# Altium footprint library O_JonF_DaveL.PcbLib: 331 footprints (part 20 of 21)
Each footprint in its own frame and in the unit in brackets; x right, y up, seen from the top. Pads: shape width x height; smd on the part's side, far side on the other; paste and mask are expansions set on the pad; w line width, h text height; cw(c..) or ccw(c..) is an arc to the next point about the centre after c.
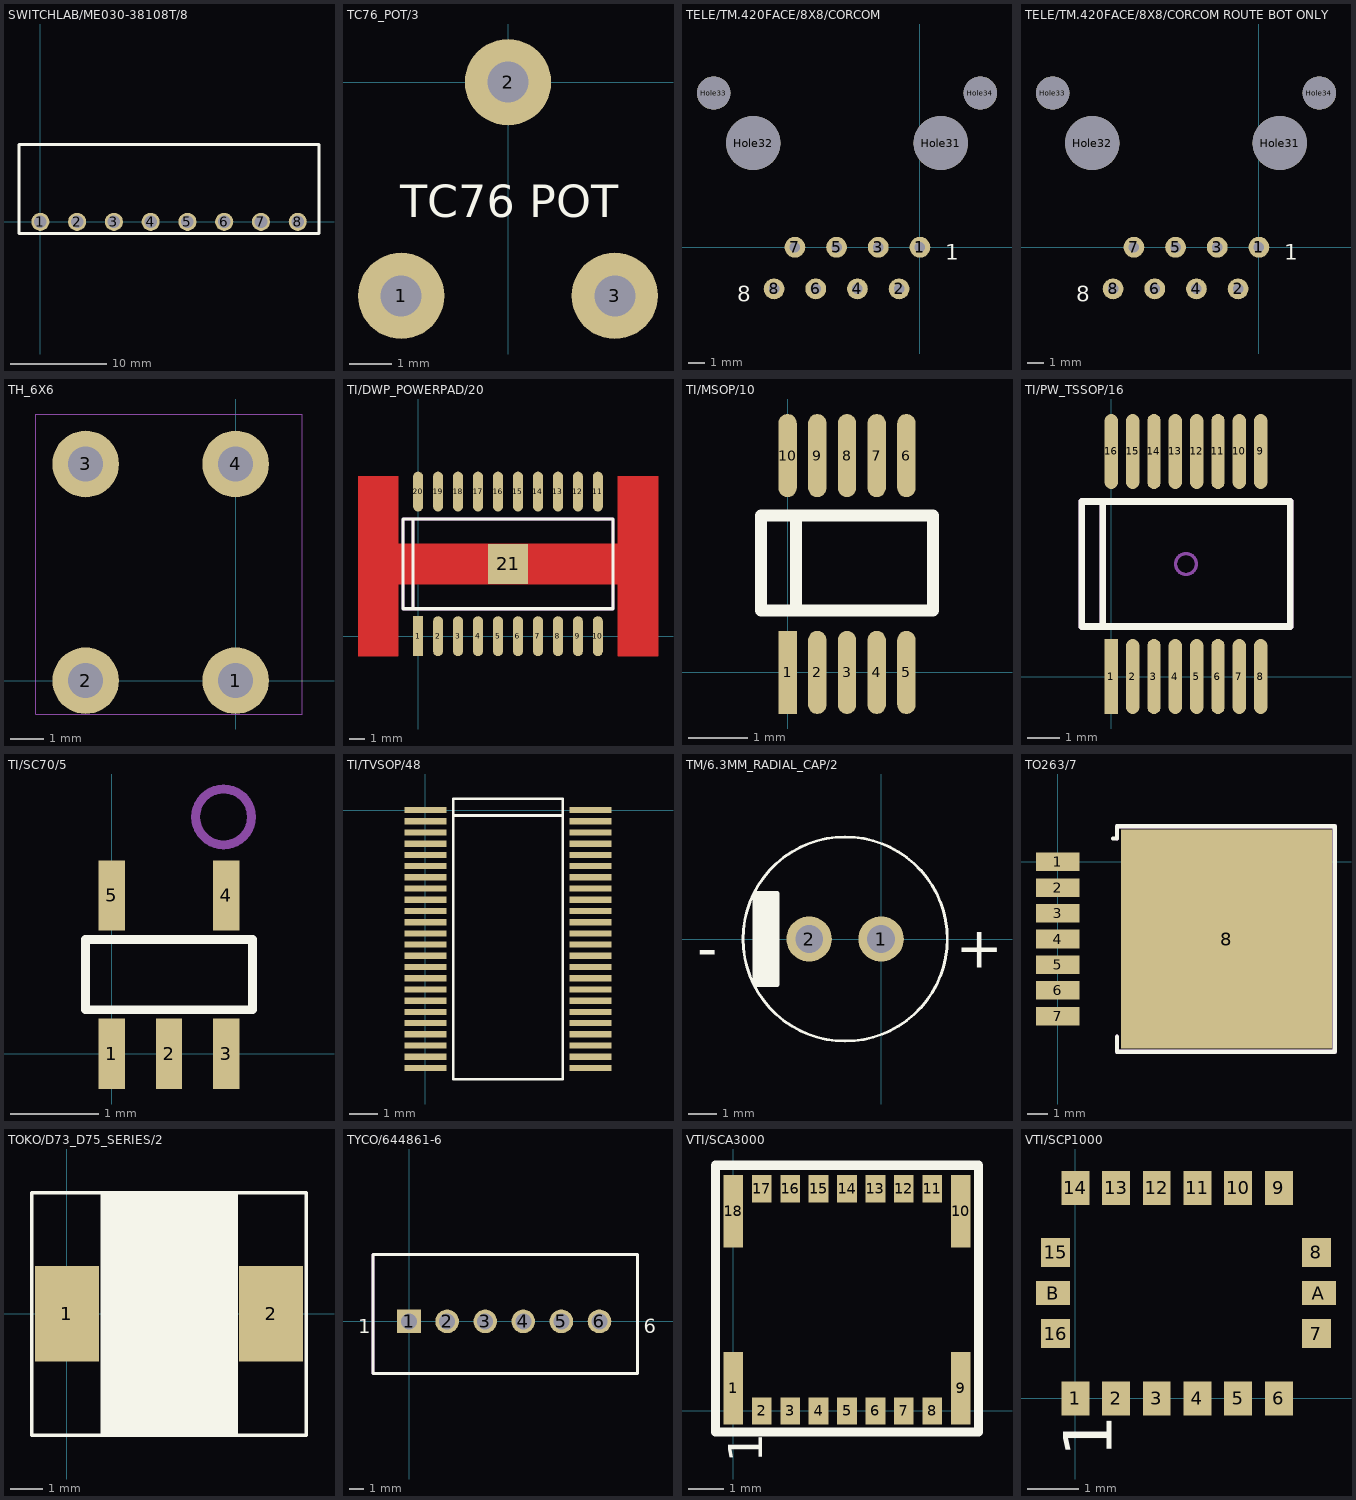
[diagram p19: the footprints below, top view; thin cyan lines are the x and y axes]

## SWITCHLAB/ME030-38108T/8 [mm]
pads (8):
  round 1.875 hole 1.3: 1(0,0) 2(3.81,0) 3(7.62,0) 4(11.43,0) 5(15.24,0) 6(19.05,0) 7(22.86,0) 8(26.67,0)
Top Overlay:
  lines w0.3: -2.21,-1.2 28.87,-1.2 28.87,8 -2.21,8 -2.21,-1.2
  text ".Designator" at -0.724,-3.3 h0.95
Mechanical 1:
  text ".Designator" at -0.724,-3.3 h0.95
  text ".Comment" at -0.724,-4.853 h0.95
  text ".Pattern" at -0.809,-8.045 h0.95

## TC76_POT/3 [mil]
pads (3):
  round 80 hole 38: 1(-99,-198) 2(0,0) 3(99,-198)
Top Overlay:
  text "TC76 POT" at -100,-125 h30

## TELE/TM.420FACE/8X8/CORCOM [mil]
pads (12):
  round 50 hole 25: 1(0,0) 2(-50,-100) 3(-100,0) 4(-150,-100) 5(-200,0) 6(-250,-100) 7(-300,0) 8(-350,-100)
  round 130 hole 130: Hole31(50,250) Hole32(-400,250)
  round 80 hole 80: Hole33(-495,370) Hole34(145,370)
Bottom Layer:
  text ".Designator" at -564.45,-230.62 h37.5
Top Overlay:
  text "8" at -438.88,-130.63 h37.5
  text "1" at 61.12,-30.63 h37.5
Mechanical 1:
  text ".420 FACE" at -275,600.5 h30
  text "8" at -438.88,-130.63 h37.5
  text "1" at 61.12,-30.63 h37.5
  text "Corcom RJ45-8N3-B F" at -395.83,94.13 h22.5
  text "Place at edge of PCB" at -23.18,425 h18.75
Mechanical 3:
  text "Place at edge of PCB" at -325,400 h11.25

## TELE/TM.420FACE/8X8/CORCOM ROUTE BOT ONLY [mil]
pads (12):
  round 50 hole 25: 1(0,0) 2(-50,-100) 3(-100,0) 4(-150,-100) 5(-200,0) 6(-250,-100) 7(-300,0) 8(-350,-100)
  round 130 hole 130: Hole31(50,250) Hole32(-400,250)
  round 80 hole 80: Hole33(-495,370) Hole34(145,370)
Bottom Layer:
  text ".Designator" at -564.45,-230.62 h37.5
Top Overlay:
  text "1" at 61.12,-30.63 h37.5
  text "8" at -438.88,-130.63 h37.5
Mechanical 1:
  text "Place at edge of PCB" at -23.18,425 h18.75
  text "Corcom RJ45-8N3-B F" at -395.83,94.13 h22.5
  text "1" at 61.12,-30.63 h37.5
  text "8" at -438.88,-130.63 h37.5
  text ".420 FACE" at -275,600.5 h30
Mechanical 3:
  text "Place at edge of PCB" at -325,400 h11.25

## TH_6X6 [mm]
pads (4):
  round 2 hole 1.05: 1(0,0) 2(-4.5,0) 3(-4.5,6.5) 4(0,6.5)
Mechanical 1:
  lines w0.001: -6,-1 -6,8 2,8 2,-1 -6,-1
  text ".Pattern" at -5,3 h0.75

## TI/DWP_POWERPAD/20 [mil]
pads (21):
  rect 25x100 smd: 1(0,0)
  oval 25x100 smd: 2(50,0) 3(100,0) 4(150,0) 5(200,0) 6(250,0) 7(300,0) 8(350,0) 9(400,0) 10(450,0) 11(450,362) 12(400,362) 13(350,362) 14(300,362) 15(250,362) 16(200,362) 17(150,362) 18(100,362) 19(50,362) 20(0,362)
  rect 100x100 smd: 21(225,181)
Top Layer:
  region: 600.38,400.38 600.54,400 600.54,-50 600.38,-50.38 600,-50.54 500,-50.54 499.62,-50.38 499.46,-50 499.46,130.46 -49.46,130.46 -49.46,-50 -49.62,-50.38 -50,-50.54 -150,-50.54 -150.38,-50.38 -150.54,-50 -150.54,400 -150.38,400.38 -150,400.54 -50,400.54 -49.62,400.38 -49.46,400 -49.46,231.54 499.46,231.54 499.46,400 499.62,400.38 500,400.54 600,400.54
Top Overlay:
  lines w8: -12.5,68.5 -12.5,293.5 ; -37.5,68.5 487.5,68.5 487.5,293.5 -37.5,293.5 -37.5,68.5
  text ".Designator" at -217.35,306.88 h37.5
Top Solder:
  region: 600.38,400.38 600.54,400 600.54,-50 600.38,-50.38 600,-50.54 500,-50.54 499.62,-50.38 499.46,-50 499.46,130.46 -49.46,130.46 -49.46,-50 -49.62,-50.38 -50,-50.54 -150,-50.54 -150.38,-50.38 -150.54,-50 -150.54,400 -150.38,400.38 -150,400.54 -50,400.54 -49.62,400.38 -49.46,400 -49.46,231.54 499.46,231.54 499.46,400 499.62,400.38 500,400.54 600,400.54
Mechanical 1:
  lines w8: -12.5,68.5 -12.5,293.5 ; -37.5,68.5 487.5,68.5 487.5,293.5 -37.5,293.5 -37.5,68.5
  text ".Pattern" at 31.13,114.23 h22.5
  text ".Comment" at 139.47,216 h37.5
  text ".Designator" at 157.65,156.88 h37.5
Mechanical 3:
  lines w4: 212.5,181 ccw(c225,181) 225,168.5 ccw(c225,181) 237.5,181 ccw(c225,181) 225,193.5 ccw(c225,181) 212.5,181

## TI/MSOP/10 [mm]
pads (10):
  rect 0.31x1.4 smd: 1(0,0)
  oval 0.31x1.4 smd: 2(0.5,0) 3(1,0) 4(1.5,0) 5(2,0) 6(2,3.65) 7(1.5,3.65) 8(1,3.65) 9(0.5,3.65) 10(0,3.65)
Top Overlay:
  lines w0.2: 0.14,1.05 0.14,2.63 ; -0.45,1.04 2.45,1.04 2.45,2.64 -0.45,2.64 -0.45,1.04
  text ".Designator" at -0.25,6.245 h1.5
Mechanical 1:
  text ".Pattern" at -0.143,-2.731 h1.5
  text ".Comment" at -0.664,10.014 h1.5
  text ".Designator" at -0.261,6.27 h1.5

## TI/PW_TSSOP/16 [mil]
pads (16):
  rect 16x90 smd: 1(0,0)
  oval 16x90 smd: 2(25.6,0) 3(51.2,0) 4(76.8,0) 5(102.4,0) 6(128,0) 7(153.6,0) 8(179.2,0) 9(179.2,270) 10(153.6,270) 11(128,270) 12(102.4,270) 13(76.8,270) 14(51.2,270) 15(25.6,270) 16(0,270)
Top Overlay:
  lines w8: -10.4,60 -10.4,210 ; -35.4,60 214.6,60 214.6,210 -35.4,210 -35.4,60
  text ".Designator" at -38.77,60.1 h37.5
Mechanical 1:
  lines w8: -10.4,60 -10.4,210 ; -35.4,60 214.6,60 214.6,210 -35.4,210 -35.4,60
  text ".Designator" at 22.25,110.88 h37.5
  text ".Comment" at 4.07,170 h37.5
  text ".Pattern" at -104.27,68.23 h22.5
Mechanical 3:
  lines w4: 77.1,135 cw(c89.6,135) 89.6,147.5 cw(c89.6,135) 102.1,135 cw(c89.6,135) 89.6,122.5 cw(c89.6,135) 77.1,135

## TI/SC70/5 [mm]
pads (5):
  rect 0.3x0.8 smd: 1(0,0) 2(0.65,0) 3(1.3,0) 4(1.3,1.8) 5(0,1.8)
Top Overlay:
  lines w0.1: -0.3,0.5 1.6,0.5 1.6,1.3 -0.3,1.3 -0.3,0.5
  text ".Designator" at -0.288,-0.146 h0.95
  text "." at -0.03,0.72 h0.08
Mechanical 1:
  text ".Designator" at -0.288,-0.156 h0.95
  text ".Pattern" at -2.608,-1.5 h0.57
Mechanical 3:
  lines w0.102: 0.952,2.692 cw(c1.27,2.692) 1.27,3.01 cw(c1.27,2.692) 1.587,2.692 cw(c1.27,2.692) 1.27,2.375 cw(c1.27,2.692) 0.953,2.692

## TI/TVSOP/48 [mm]
pads (48):
  rect 1.5x0.22 smd: 1(0,0) 2(0,-0.4) 3(0,-0.8) 4(0,-1.2) 5(0,-1.6) 6(0,-2) 7(0,-2.4) 8(0,-2.8) 9(0,-3.2) 10(0,-3.6) 11(0,-4) 12(0,-4.4) 13(0,-4.8) 14(0,-5.2) 15(0,-5.6) 16(0,-6) 17(0,-6.4) 18(0,-6.8) 19(0,-7.2) 20(0,-7.6) 21(0,-8) 22(0,-8.4) 23(0,-8.8) 24(0,-9.2) 25(5.9,-9.2) 26(5.9,-8.8) 27(5.9,-8.4) 28(5.9,-8) 29(5.9,-7.6) 30(5.9,-7.2) 31(5.9,-6.8) 32(5.9,-6.4) 33(5.9,-6) 34(5.9,-5.6) 35(5.9,-5.2) 36(5.9,-4.8) 37(5.9,-4.4) 38(5.9,-4) 39(5.9,-3.6) 40(5.9,-3.2) 41(5.9,-2.8) 42(5.9,-2.4) 43(5.9,-2) 44(5.9,-1.6) 45(5.9,-1.2) 46(5.9,-0.8) 47(5.9,-0.4) 48(5.9,0)
Top Overlay:
  lines w0.1: 1,-0.2 4.9,-0.2 ; 1,-9.6 1,0.1 1,0.4 4.9,0.4 4.9,-9.6 1,-9.6
  text ".Designator" at 0.9,0.4 h1.5
Mechanical 1:
  text ".Pattern" at 0,0 h1.5
  text ".Comment" at 0,6 h1.5
  text ".Designator" at 0,9 h1.5

## TM/6.3MM_RADIAL_CAP/2 [mil]
pads (2):
  round 62 hole 38: 1(0,0) 2(-98.43,0)
Top Overlay:
  circle w3.94: c-49.21,0 r139.82
  region: -140.23,64.5 -139.6,62.99 -139.6,-62.99 -140.23,-64.5 -141.73,-65.12 -173.23,-65.12 -174.73,-64.5 -175.36,-62.99 -175.36,62.99 -174.73,64.5 -173.23,65.12 -141.73,65.12
  text "+" at 102.36,-39.37 h56.25
  text "-" at -251.97,-39.37 h56.25
Mechanical 1:
  text ".Pattern" at -216.54,49.21 h44.29

## TO263/7 [mil]
pads (8):
  rect 85x36 smd: 1(0,0) 2(0,-50) 3(0,-100) 4(0,-150) 5(0,-200) 6(0,-250) 7(0,-300)
  rect 410x425 smd: 8(328,-150)
Top Overlay:
  lines w8: 107.5,45 115,45 115,69 538,69 538,-369 115,-369 115,-340
  text ".Designator" at 344.45,-431.13 h37.5
Mechanical 1:
  lines w8: 115,-340 115,-369 538,-369 538,69 115,69 115,45
  text ".Designator" at 260.45,-83.13 h37.5
  text ".Comment" at 242.67,-231.23 h37.5
  text ".Pattern" at 268.57,-143.38 h22.5

## TOKO/D73_D75_SERIES/2 [mm]
pads (2):
  rect 2x3 smd: 1(0,0) 2(6.4,0)
Top Overlay:
  region: 5.334,3.831 5.35,3.792 5.35,-3.803 5.334,-3.841 5.296,-3.857 1.11,-3.857 1.072,-3.841 1.056,-3.803 1.056,3.792 1.072,3.831 1.11,3.846 5.296,3.846
  lines w0.1: -1.1,-3.804 -1.1,3.792 7.5,3.792 7.5,-3.804 -1.1,-3.804
  text ".Designator" at 0,9 h1.5
Mechanical 1:
  text ".Pattern" at 0,0 h1.5
  text ".Comment" at 0,6 h1.5
  text ".Designator" at 0,9 h1.5

## TYCO/644861-6 [mil]
pads (6):
  rect 62x62 hole 42: 1(0,0)
  round 62 hole 42: 2(100,0) 3(200,0) 4(300,0) 5(400,0) 6(500,0)
Top Overlay:
  lines w8: -95,-137 600,-137 600,176 -95,176 -95,-137
  text "1" at -133.88,-30.63 h37.5
  text "6" at 616.12,-30.63 h37.5
Mechanical 1:
  lines w8: -95,-137 600,-137 600,176 -95,176 -95,-137
  text "1" at -133.88,-30.63 h37.5
  text "6" at 616.12,-30.63 h37.5

## VTI/SCA3000 [mm]
pads (18):
  rect 0.55x2.03 smd: 1(0,0.635) 9(6.4,0.635) 10(6.4,5.605) 18(0,5.605)
  rect 0.55x0.76 smd: 2(0.8,0) 3(1.6,0) 4(2.4,0) 5(3.2,0) 6(4,0) 7(4.8,0) 8(5.6,0) 11(5.6,6.24) 12(4.8,6.24) 13(4,6.24) 14(3.2,6.24) 15(2.4,6.24) 16(1.6,6.24) 17(0.8,6.24)
Top Overlay:
  lines w0.254: -0.5,-0.6 -0.5,6.9 6.9,6.9 6.9,-0.6 -0.5,-0.6
  text "1" at 0.812,-1.459 h0.95

## VTI/SCP1000 [mm]
pads (18):
  rect 0.55x0.67 smd: 1(0,0) 2(0.8,0) 3(1.6,0) 4(2.4,0) 5(3.2,0) 6(4,0) 9(4,4.14) 10(3.2,4.14) 11(2.4,4.14) 12(1.6,4.14) 13(0.8,4.14) 14(0,4.14)
  rect 0.57x0.57 smd: 7(4.74,1.27) 8(4.74,2.87) 15(-0.39,2.87) 16(-0.39,1.27)
  rect 0.67x0.47 smd: A(4.79,2.07) B(-0.44,2.07)
Top Overlay:
  text ".Designator" at -0.897,4.47 h1.5
  text "1" at 0.712,-1.159 h0.95
Mechanical 1:
  text ".Pattern" at -0.197,-1.13 h1.5
  text ".Comment" at -0.197,2.67 h1.5
  text ".Designator" at -0.297,4.47 h1.5